# Altium footprint library EECS430PhasedArray.PcbLib: 56 footprints (part 1 of 4)
Each footprint in its own frame and in the unit in brackets; x right, y up, seen from the top. Pads: shape width x height; smd on the part's side, far side on the other; paste and mask are expansions set on the pad; w line width, h text height; cw(c..) or ccw(c..) is an arc to the next point about the centre after c.
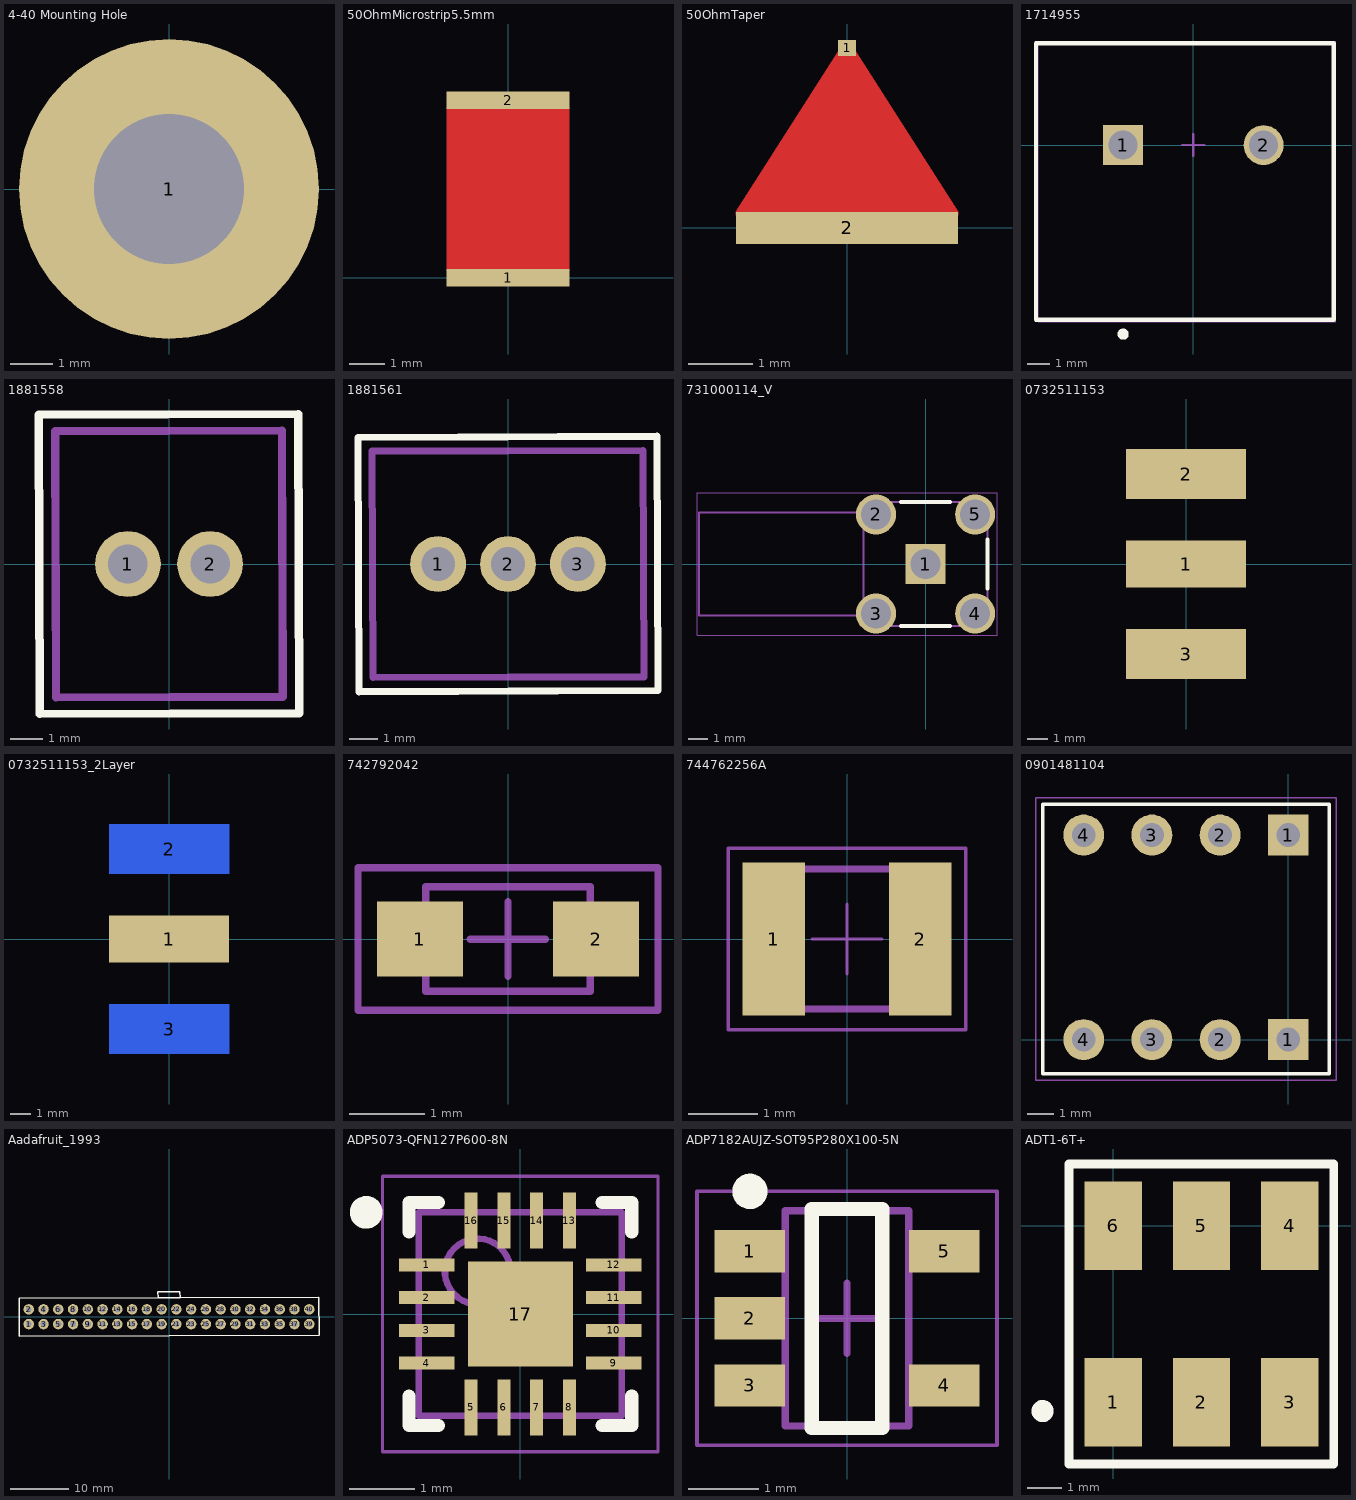
[diagram p0: the footprints below, top view; thin cyan lines are the x and y axes]

## 4-40 Mounting Hole [mm]
pads (1):
  round 7 hole 3.5: 1(0,0)

## 50OhmMicrostrip5.5mm [mm]
pads (2):
  rect 3.457x0.5 smd paste+0 mask+0: 1(0,0) 2(0,5)
Top Layer:
  rectangle: -1.7,4.8 -0.8,4.9
  rectangle: -1.729,0.2 1.729,4.8

## 50OhmTaper [mm] "Triangular taper between 50 Ohms and 0402 width"
pads (2):
  rect 0.279x0.254 smd paste+0 mask-10: 1(0,2.8)
  rect 3.457x0.5 smd paste+0 mask-10: 2(0,0)
Top Layer:
  region: -1.728,0.2 1.728,0.2 1.728,0.25 0.139,2.75 -0.139,2.75 -1.728,0.25

## 1714955 [mm] "Terminal Block, 2-Leads, Body 12.7x12.5mm, Pitch 6.35mm"
height 21.5
pads (2):
  rect 1.8x1.8 hole 1.3: 1(-3.175,0)
  round 1.8 hole 1.3: 2(3.175,0)
Top Overlay:
  circle w0.25: c-3.175,-8.55 r0.125
  lines w0.2: -7.112,-7.9 -7.112,4.6 6.35,4.6 6.35,-7.9 -7.112,-7.9
Top 3D Body:
  lines w0.1: -7.112,-7.9 -7.112,4.6 6.35,4.6 6.35,-7.9 -7.112,-7.9
Top Courtyard:
  lines w0.05: -7.02,-8 -7.02,4.7 6.45,4.7 6.45,-8 -7.02,-8
  lines w0.1: -0.5,0 0.5,0 ; 0,-0.5 0,0.5
3D body "1714955_03.stp": height 21.51, standoff -4.99, extent -6.92,-7.9 6.35,4.6

## 1881558 [mm] "2 Position Terminal Block Header, Male Pins, Shrouded (4 Side) 0.098\" (2.50mm) Vertical Through Hole"
pads (2):
  round 2 hole 1.2: 1(-1.25,0) 2(1.25,0)
Top Overlay:
  lines w0.254: -3.966,4.536 3.934,4.564 3.966,-4.536 -3.934,-4.564 -3.966,4.536
Mechanical 1:
  lines w0.254: -3.464,4.038 3.436,4.062 3.464,-4.038 -3.436,-4.062 -3.464,4.038
3D body "pxc_1881558_01_00_MCV-0-5-2-G-2-5_3D.stp": height 10.11, standoff -3.49, extent -3.436,-4.05 3.464,4.05

## 1881561 [mm] "3 Position Terminal Block Header, Male Pins, Shrouded (4 Side) 0.098\" (2.50mm) Vertical Through Hole"
pads (3):
  round 2 hole 1.2: 1(-2.5,0) 2(0,0) 3(2.5,0)
Top Overlay:
  lines w0.254: -5.366,4.531 5.334,4.569 5.366,-4.531 -5.334,-4.569 -5.366,4.531
Top Assembly:
  lines w0.254: -4.864,4.033 -4.836,-4.067 4.864,-4.033 4.836,4.067 -4.864,4.033
3D body "pxc_1881561_00_00_MCV-0-5-3-G-2-5_3D.stp": height 10.11, standoff -3.49, extent -4.7,-4 4.7,4.1

## 731000114_V [mm] "Connector, 5-Leads, Body 14.8x6.35mm, Pitch 2.54mm"
height 9.57
pads (5):
  rect 2.05x2.05 hole 1.54: 1(0,0)
  round 2.05 hole 1.54: 2(-2.54,2.54) 3(-2.54,-2.54) 4(2.54,-2.54) 5(2.54,2.54)
Top Overlay:
  lines w0.2: -1.264,-3.175 1.264,-3.175 ; -1.264,3.175 1.264,3.175 ; 3.175,-1.264 3.175,1.264
Top 3D Body:
  lines w0.1: -11.625,2.641 -3.175,2.641 ; -11.625,2.65 -11.625,-2.65 -3.175,-2.65 ; -3.175,3.175 -3.175,-3.175 3.175,-3.175 ; -3.175,3.175 -3.175,3.175 ; -3.175,3.175 3.175,3.175 3.175,-3.175 ; 3.175,-3.175 3.175,-3.175
Top Courtyard:
  lines w0.05: -11.725,-3.665 3.665,-3.665 3.665,3.665 -11.725,3.665 -11.725,-3.665
  lines w0.1: -0.5,0 0.5,0 ; 0,-0.5 0,0.5
3D body "731000114.stp": height 9.57, standoff -3.93, extent -11.625,-3.175 3.175,3.175

## 0732511153 [mil] "SMA Connector Jack, Female Socket 50 Ohms Board Edge, End Launch Solder"
pads (3):
  rect 230x90 smd: 1(0,0)
  rect 230x95 smd: 2(0,172.5) 3(0,-172.5)
3D body "732511153.stp": height 171.5, standoff -140.5, extent -493.6,-187.5 68.4,187.5

## 0732511153_2Layer [mil] "SMA Connector Jack, Female Socket 50 Ohms Board Edge, End Launch Solder"
pads (3):
  rect 230x90 smd: 1(0,0)
  rect 230x95 smd far side: 2(0,172.5) 3(0,-172.5)
3D body "732511153.stp": height 171.5, standoff -140.5, extent -493.6,-187.5 68.4,187.5

## 742792042 [mm] "Chip Inductor, 2-Leads, Body 2.0x1.2mm"
height 1.1
pads (2):
  rect 1.15x1 smd: 1(-1.175,0) 2(1.175,0)
Top 3D Body:
  lines w0.1: -1.1,-0.7 1.1,-0.7 1.1,0.7 -1.1,0.7 -1.1,-0.7
Top Courtyard:
  lines w0.1: -0.5,0 0.5,0 ; 0,-0.5 0,0.5 ; -2,-0.95 2,-0.95 2,0.95 -2,0.95 -2,-0.95
3D body "74279201.stp": height 0.89, standoff -0.01, extent -1,-0.6 1,0.6

## 744762256A [mm] "SMD Wire Wound Ceramic Inductor, body 2.50x2.00mm"
height 1.8
pads (2):
  rect 0.9x2.2 smd: 1(-1.05,0) 2(1.05,0)
Top Component Outline:
  lines w0.1: -1.25,-1 1.25,-1 1.25,1 -1.25,1 -1.25,-1
Top 3D Body:
  lines w0.1: -1.25,-1 -1.25,1 1.25,1 1.25,-1 -1.25,-1
Top Courtyard:
  lines w0.05: -0.5,0 0.5,0 ; 0,-0.5 0,0.5 ; -1.7,-1.3 1.7,-1.3 1.7,1.3 -1.7,1.3 -1.7,-1.3
3D body "STEP-WE-KI-1008A-rev1.stp": height 1.12, standoff -0.01, extent -1.25,-1.002 1.25,1.003

## 0901481104 [mil] "4-pin right angle THT 0.1\" pitch header with strain relief"
pads (8):
  rect 60x60 hole 35: 1(0,0) 1(0,300)
  round 60 hole 35: 2(-100,0) 2(-100,300) 3(-200,0) 3(-200,300) 4(-300,0) 4(-300,300)
Top Overlay:
  lines w5: -360,-50 60,-50 60,345 -360,345 -360,-50
Top Courtyard:
  lines w1.97: -370,-60 -370,355 70,355 70,-60 -370,-60
3D body "901481104.stp": height 130.5, standoff -113.5, extent -350,-17.5 50,317.5

## Aadafruit_1993 [mm] "2x20 0.1in pitch shrouded header"
pads (40):
  round 1.8 hole 1.02: 1(-24.13,-1.27) 2(-24.13,1.27) 3(-21.59,-1.27) 4(-21.59,1.27) 5(-19.05,-1.27) 6(-19.05,1.27) 7(-16.51,-1.27) 8(-16.51,1.27) 9(-13.97,-1.27) 10(-13.97,1.27) 11(-11.43,-1.27) 12(-11.43,1.27) 13(-8.89,-1.27) 14(-8.89,1.27) 15(-6.35,-1.27) 16(-6.35,1.27) 17(-3.81,-1.27) 18(-3.81,1.27) 19(-1.27,-1.27) 20(-1.27,1.27) 21(1.27,-1.27) 22(1.27,1.27) 23(3.81,-1.27) 24(3.81,1.27) 25(6.35,-1.27) 26(6.35,1.27) 27(8.89,-1.27) 28(8.89,1.27) 29(11.43,-1.27) 30(11.43,1.27) 31(13.97,-1.27) 32(13.97,1.27) 33(16.51,-1.27) 34(16.51,1.27) 35(19.05,-1.27) 36(19.05,1.27) 37(21.59,-1.27) 38(21.59,1.27) 39(24.13,-1.27) 40(24.13,1.27)
Top Overlay:
  lines w0.254: -25.811,3.16 25.789,3.34 25.811,-3.16 -25.788,-3.34 -25.811,3.16 ; -1.894,4.261 1.891,4.274 1.894,3.283 -1.891,3.27 -1.894,4.261

## ADP5073-QFN127P600-8N [mm] "16-Lead Lead Frame Chip Scale Package [LFCSP]  3 mm × 3 mm Body and 0.75 mm Package Height"
height 0.8
pads (17):
  rect 0.85x0.2 smd: 1(-1.425,0.75) 2(-1.425,0.25) 3(-1.425,-0.25) 4(-1.425,-0.75) 9(1.425,-0.75) 10(1.425,-0.25) 11(1.425,0.25) 12(1.425,0.75)
  rect 0.2x0.85 smd: 5(-0.75,-1.425) 6(-0.25,-1.425) 7(0.25,-1.425) 8(0.75,-1.425) 13(0.75,1.425) 14(0.25,1.425) 15(-0.25,1.425) 16(-0.75,1.425)
  rect 1.6x1.6 smd: 17(0,0)
Top Overlay:
  circle w0.25: c-2.35,1.55 r0.125
  lines w0.2: -1.7,-1.25 -1.7,-1.7 -1.25,-1.7 ; -1.7,1.25 -1.7,1.7 -1.25,1.7 ; 1.25,-1.7 1.7,-1.7 1.7,-1.25 ; 1.25,1.7 1.7,1.7 1.7,1.25
Top Assembly:
  circle w0.1: c-0.65,0.65 r0.5
  lines w0.1: -1.55,-1.55 -1.55,1.55 1.55,1.55 1.55,-1.55 -1.55,-1.55
Top Courtyard:
  lines w0.05: -2.1,-2.1 -2.1,2.1 2.1,2.1 2.1,-2.1 -2.1,-2.1
  lines w0.1: -0.5,0 0.5,0 ; 0,-0.5 0,0.5
3D body "ADP5073-QFN127P600-8N.step": height 0.8, standoff 0, extent -1.6,-1.6 1.6,1.6

## ADP7182AUJZ-SOT95P280X100-5N [mm] "SOT23, 5-Leads, Body 2.90x2.80mm, Pitch 0.95mm, IPC Medium Density"
height 1
pads (5):
  rect 1x0.6 smd: 1(-1.375,0.95) 2(-1.375,0) 3(-1.375,-0.95) 4(1.375,-0.95) 5(1.375,0.95)
Top Overlay:
  circle w0.25: c-1.375,1.8 r0.125
  lines w0.2: -0.5,-1.55 -0.5,1.55 0.5,1.55 0.5,-1.55 -0.5,-1.55
Top Assembly:
  lines w0.1: -0.875,-1.525 0.875,-1.525 0.875,1.525 -0.875,1.525 -0.875,-1.525
Top Courtyard:
  lines w0.05: -2.125,-1.8 2.125,-1.8 2.125,1.8 -2.125,1.8 -2.125,-1.8
  lines w0.1: -0.5,0 0.5,0 ; 0,-0.5 0,0.5
3D body "ADP7182AUJZ-SOT95P280X100-5N.step": height 1, standoff 0, extent -1.525,-1.525 1.525,1.525

## ADT1-6T+ [mil]
pads (6):
  rect 65x100 smd: 1(0,-200) 2(100,-200) 3(200,-200) 4(200,0) 5(100,0) 6(0,0)
Top Overlay:
  circle w15: c-80,-210 r5
  lines w10: -50,-270 250,-270 250,70 -50,70 -50,-270